# EAGLE library part SPI_STANDARD (library connector)
Standard SPI
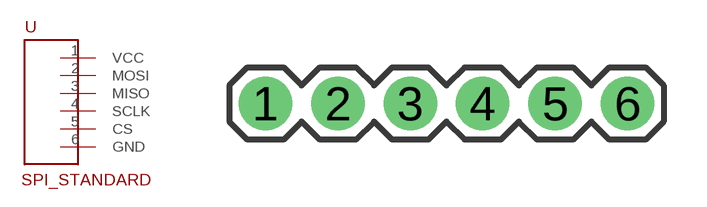
[diagram p12: symbol with the pads of 1X06; footprint 1X06]

Designator prefix -

## SPI_STANDARD  [1X06]
1  VCC  pwr
2  MOSI
3  MISO
4  SCLK
5  CS
6  GND  pwr

## Footprint 1X06 (pad centres in mm)
drill 1.016 pad 1.88: 1 0,0; 2 2.54,0; 3 5.08,0; 4 7.62,0; 5 10.16,0; 6 12.7,0